# Altium footprint library CC2530_MYDESIGNV1.PcbLib: 19 footprints (part 2 of 2)
Each footprint in its own frame and in the unit in brackets; x right, y up, seen from the top. Pads: shape width x height; smd on the part's side, far side on the other; paste and mask are expansions set on the pad; w line width, h text height; cw(c..) or ccw(c..) is an arc to the next point about the centre after c.
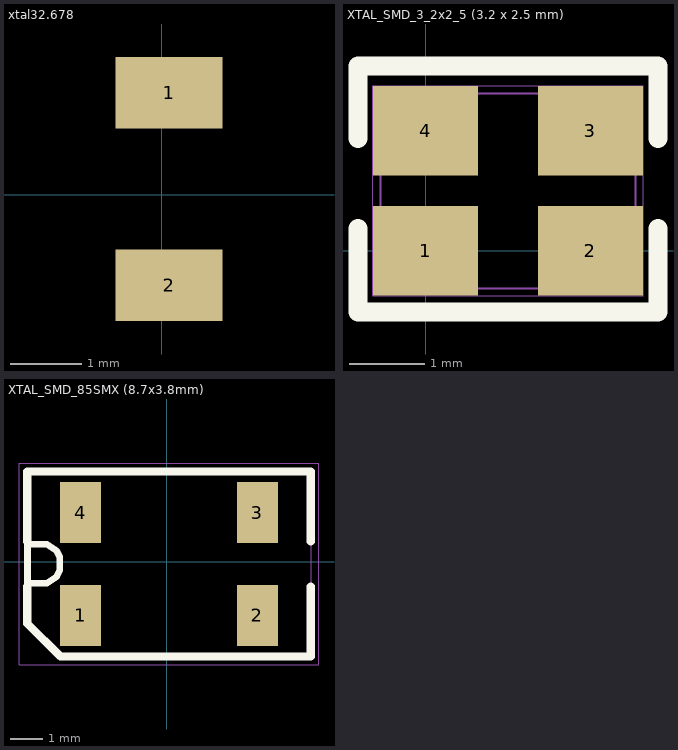
[diagram p1: the footprints below, top view; thin cyan lines are the x and y axes]

## xtal32.678 [mm]
pads (2):
  rect 1.5x1 smd: 1(0.102,1.43) 2(0.102,-1.27)

## XTAL_SMD_3_2x2_5 (3.2 x 2.5 mm) [mil]
height 39.37
pads (4):
  rect 55x47 smd paste-2 mask+2: 1(0,0) 2(86.61,0) 3(86.61,62.99) 4(0,62.99)
Top Overlay:
  lines w10: -35.43,11.81 -35.43,-32.05 122.05,-32.05 122.05,11.81 ; -35.43,59.06 -35.43,96.93 122.05,96.93 122.05,59.06
Mechanical 1:
  lines w1: -23.62,-19.69 -23.62,82.68 110.24,82.68 110.24,-19.69 -23.62,-19.69
Mechanical 2:
  lines w0.1: -27.56,-23.62 -27.56,86.61 114.17,86.61 114.17,-23.62 -27.56,-23.62

## XTAL_SMD_85SMX (8.7x3.8mm) [mil]
height 100
pads (4):
  rect 50x74 smd paste+0 mask+4: 1(-105,-65) 2(110,-65) 3(110,60) 4(-105,60)
Top Overlay:
  lines w8: -169.69,-25.67 -146.06,-25.67 -134.25,-17.8 -130.31,-9.92 -130.31,5.83 -134.25,13.7 -146.06,21.57 -169.69,21.57 -169.69,-25.67
  lines w10: -170,-30 -170,-75 -129.41,-115 175,-115 175,-30 ; -170,25 -170,110 175,110 175,25
Mechanical 1:
  lines w1: -170.08,-74.88 -129.53,-115.04 175.2,-115.04 175,110 -169.69,110.16 -170.08,-74.88 ; -169.69,-26.26 -146.06,-26.26 -134.25,-17.8 -130.31,-9.92 -130.31,5.83 -134.25,13.7 -146.06,21.57 -169.69,21.57 -169.69,-26.26
Mechanical 2:
  lines w1: -180,-125 185,-125 185,120 -180,120 -180,-125